# Altium schematic symbol library SnapEDAsch.SchLib: 1 symbol
Pins are listed as number, name and electrical type; pins without a type are passive.

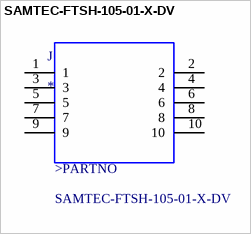
[diagram p0: symbol SAMTEC-FTSH-105-01-X-DV]

## SAMTEC-FTSH-105-01-X-DV
designator J
Connector Header Surface Mount 10 position 0.050 _1.27mm_; MF: Samtec Inc.; MP: FTSH-105-01-F-DV-K-TR; Digi-Key_Purchase_URL: https://www.digikey.com/product-detail/en/samtec-inc/FTSH-105-01-F-DV-K-TR/SAM13160CT-ND/8827915?utm_source=snapeda&utm_medium=aggregator&utm_campaign=symbol; Package: None; SnapEDA_Link: https://www.snapeda.com/parts/FTSH-105-01-F-DV-K-TR/Samtec%20Inc./view-part/2790373/?ref=snap; Digi-Key_Part_Number: SAM13160CT-ND; Value: *
footprint SAMTEC-FTSH-105-01-X-DV
pins: 1, 2, 3, 4, 5, 6, 7, 8, 9, 10
text: >PARTNO